# Altium integrated library Transistor.IntLib: 3457 symbols (part 40 of 78)
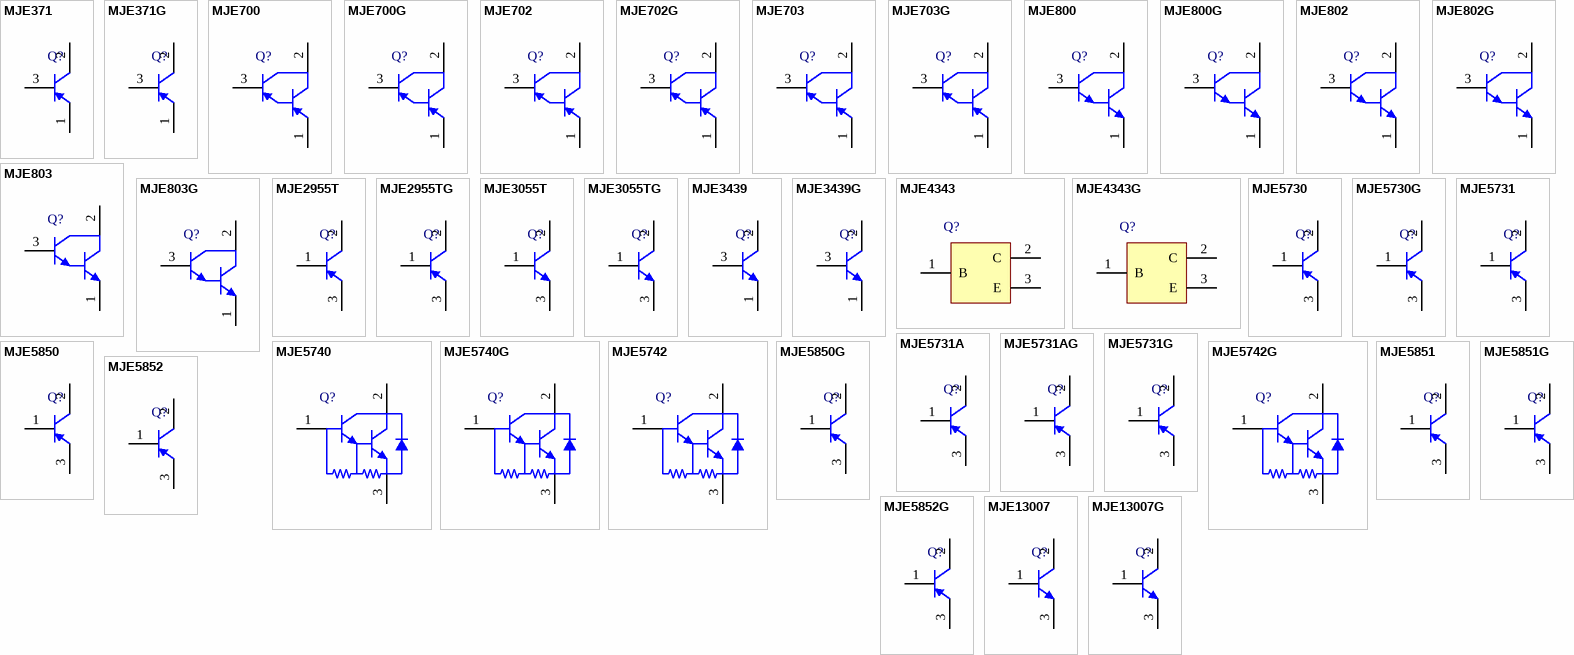
[diagram p133: symbols MJE371 to MJE13007G]

## MJE5852
designator Q?
SWITCHMODE Series PNP Silicon Power Transistor, 3-Pin TO-220, Tube; Manufacturer: On Semiconductor; PartNumber: MJE5852; IC Continuous (A): 8; DatasheetVersion: Rev. 6; PackageVersion: Rev. AG, 09/2011; PackageReference: TO-220-3-221A-09; PackageDescription: 3-Pin Flange Mount, Vertical Straight Lead, Body 9.97 x 4.445 mm, Pitch 2.54 mm; Supplier 1: Digi-Key; Supplier Part Number 1: MJE5852OS-ND; Packing: Tube; Polarity: PNP; RoHS: FALSE; Mounting Technology: Through Hole; ComponentLink1Description: Manufacturer URL; ComponentLink1URL: http://www.onsemi.com/; ComponentLink2Description: Datasheet; ComponentLink2URL: http://www.onsemi.com/pub_link/Collateral/MJE5850-D.PDF; ComponentLink3Description: Package Specification; ComponentLink3URL: http://www.onsemi.com/pub_link/Collateral/221A-09.PDF
footprint ONSC-TO-220-3-221A-09 (FM, 3-Leads, Body 10.3x4.85mm, Pitch 2.54mm)
pins: 1 B, 2 C, 3 E

## MJE5852G
designator Q?
SWITCHMODE Series PNP Silicon Power Transistor, 3-Pin TO-220, Pb-Free, Tube; Manufacturer: On Semiconductor; PartNumber: MJE5852G; IC Continuous (A): 8; DatasheetVersion: Rev. 6; PackageVersion: Rev. AG, 09/2011; PackageReference: TO-220-3-221A-09; PackageDescription: 3-Pin Flange Mount, Vertical Straight Lead, Body 9.97 x 4.445 mm, Pitch 2.54 mm; Supplier 1: Digi-Key; Supplier Part Number 1: MJE5852GOS-ND; Supplier 2: Farnell; Supplier Part Number 2: 9555889; Supplier 3: Newark; Supplier Part Number 3: 26K4469; Supplier 4: Mouser; Supplier Part Number 4: 863-MJE5852G; Packing: Tube; Polarity: PNP; RoHS: TRUE; Mounting Technology: Through Hole; ComponentLink1Description: Manufacturer URL; ComponentLink1URL: http://www.onsemi.com/; ComponentLink2Description: Datasheet; ComponentLink2URL: http://www.onsemi.com/pub_link/Collateral/MJE5850-D.PDF; ComponentLink3Description: Package Specification; ComponentLink3URL: http://www.onsemi.com/pub_link/Collateral/221A-09.PDF
footprint ONSC-TO-220-3-221A-09 (FM, 3-Leads, Body 10.3x4.85mm, Pitch 2.54mm)
pins: 1 B, 2 C, 3 E

## MJE13007
designator Q?
SWITCHMODE, NPN Bipolar Power Transistor for Switching Power Supply Application, 3-Pin TO-220, Tube; Manufacturer: On Semiconductor; PartNumber: MJE13007; fT Min (MHz): 4; IC Continuous (A): 8; DatasheetVersion: Rev. 8; PackageVersion: Rev. AG, 09/2011; PackageReference: TO-220-3-221A-09; PackageDescription: 3-Pin Flange Mount, Vertical Straight Lead, Body 9.97 x 4.445 mm, Pitch 2.54 mm; Supplier 1: Digi-Key; Supplier Part Number 1: MJE13007OS-ND; Packing: Tube; Polarity: NPN; RoHS: FALSE; Mounting Technology: Through Hole; ComponentLink1Description: Manufacturer URL; ComponentLink1URL: http://www.onsemi.com/; ComponentLink2Description: Datasheet; ComponentLink2URL: http://www.onsemi.cn/pub_link/Collateral/MJE13007-D.PDF; ComponentLink3Description: Package Specification; ComponentLink3URL: http://www.onsemi.com/pub_link/Collateral/221A-09.PDF
footprint ONSC-TO-220-3-221A-09 (FM, 3-Leads, Body 10.3x4.85mm, Pitch 2.54mm)
pins: 1 B, 2 C, 3 E

## MJE13007G
designator Q?
SWITCHMODE, NPN Bipolar Power Transistor for Switching Power Supply Application, 3-Pin TO-220, Pb-Free, Tube; Manufacturer: On Semiconductor; PartNumber: MJE13007G; fT Min (MHz): 4; IC Continuous (A): 8; DatasheetVersion: Rev. 8; PackageVersion: Rev. AG, 09/2011; PackageReference: TO-220-3-221A-09; PackageDescription: 3-Pin Flange Mount, Vertical Straight Lead, Body 9.97 x 4.445 mm, Pitch 2.54 mm; Supplier 1: Digi-Key; Supplier Part Number 1: MJE13007GOS-ND; Supplier 2: Farnell; Supplier Part Number 2: 9557857; Supplier 3: Newark; Supplier Part Number 3: 71J5860; Supplier 4: Mouser; Supplier Part Number 4: 863-MJE13007G; Packing: Tube; Polarity: NPN; RoHS: TRUE; Mounting Technology: Through Hole; ComponentLink1Description: Manufacturer URL; ComponentLink1URL: http://www.onsemi.com/; ComponentLink2Description: Datasheet; ComponentLink2URL: http://www.onsemi.cn/pub_link/Collateral/MJE13007-D.PDF; ComponentLink3Description: Package Specification; ComponentLink3URL: http://www.onsemi.com/pub_link/Collateral/221A-09.PDF
footprint ONSC-TO-220-3-221A-09 (FM, 3-Leads, Body 10.3x4.85mm, Pitch 2.54mm)
pins: 1 B, 2 C, 3 E

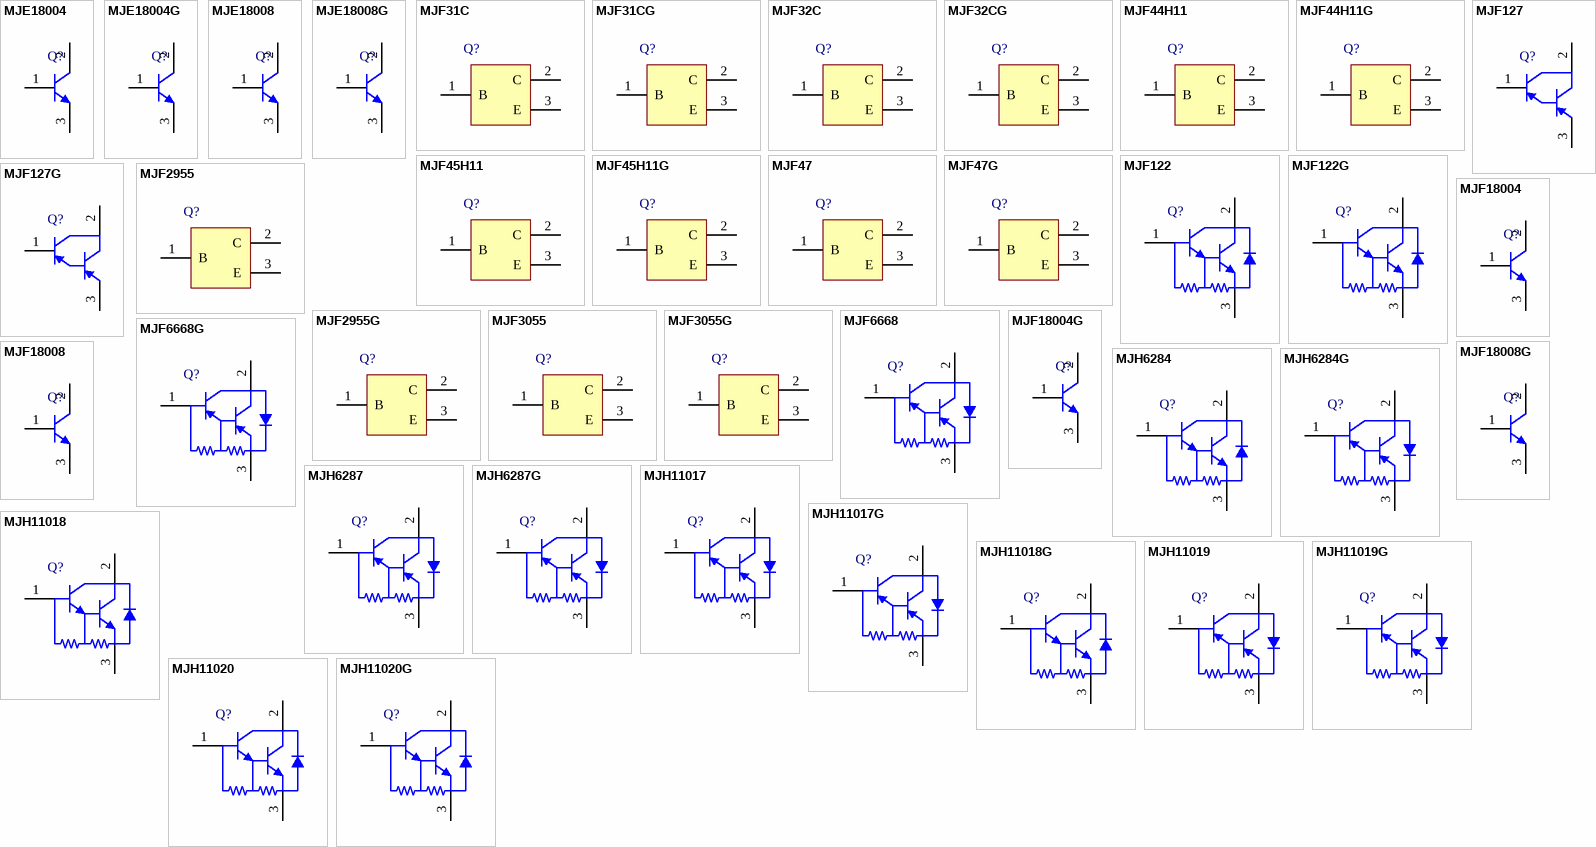
[diagram p47: symbols MJE18004 to MJH11020G]

## MJE18004
designator Q?
SWITCHMODE, NPN Bipolar Power Transistor for Switching Power Supply Application, 3-Pin TO-220, Tube; Manufacturer: On Semiconductor; PartNumber: MJE18004; IC Continuous (A): 5; DatasheetVersion: Rev. 11; PackageVersion: Rev. AG, 09/2011; PackageReference: TO-220-3-221A-09; PackageDescription: 3-Pin Flange Mount, Vertical Straight Lead, Body 9.97 x 4.445 mm, Pitch 2.54 mm; Supplier 1: Digi-Key; Supplier Part Number 1: MJE18004OS-ND; Packing: Tube; Polarity: NPN; RoHS: FALSE; Mounting Technology: Through Hole; ComponentLink1Description: Manufacturer URL; ComponentLink1URL: http://www.onsemi.com/; ComponentLink2Description: Datasheet; ComponentLink2URL: http://www.onsemi.com/pub_link/Collateral/MJE18004-D.PDF; ComponentLink3Description: Package Specification; ComponentLink3URL: http://www.onsemi.com/pub_link/Collateral/221A-09.PDF
footprint ONSC-TO-220-3-221A-09 (FM, 3-Leads, Body 10.3x4.85mm, Pitch 2.54mm)
pins: 1 B, 2 C, 3 E

## MJE18004G
designator Q?
SWITCHMODE, NPN Bipolar Power Transistor for Switching Power Supply Application, 3-Pin TO-220, Pb-Free, Tube; Manufacturer: On Semiconductor; PartNumber: MJE18004G; IC Continuous (A): 5; DatasheetVersion: Rev. 11; PackageVersion: Rev. AG, 09/2011; PackageReference: TO-220-3-221A-09; PackageDescription: 3-Pin Flange Mount, Vertical Straight Lead, Body 9.97 x 4.445 mm, Pitch 2.54 mm; Supplier 1: Digi-Key; Supplier Part Number 1: MJE18004GOS-ND; Supplier 2: Newark; Supplier Part Number 2: 26K4456; Supplier 3: Mouser; Supplier Part Number 3: 863-MJE18004G; Packing: Tube; Polarity: NPN; RoHS: TRUE; Mounting Technology: Through Hole; ComponentLink1Description: Manufacturer URL; ComponentLink1URL: http://www.onsemi.com/; ComponentLink2Description: Datasheet; ComponentLink2URL: http://www.onsemi.com/pub_link/Collateral/MJE18004-D.PDF; ComponentLink3Description: Package Specification; ComponentLink3URL: http://www.onsemi.com/pub_link/Collateral/221A-09.PDF
footprint ONSC-TO-220-3-221A-09 (FM, 3-Leads, Body 10.3x4.85mm, Pitch 2.54mm)
pins: 1 B, 2 C, 3 E

## MJE18008
designator Q?
SWITCHMODE, NPN Bipolar Power Transistor for Switching Power Supply Application, 3-Pin TO-220, Tube; Manufacturer: On Semiconductor; PartNumber: MJE18008; IC Continuous (A): 8; DatasheetVersion: Rev. 9; PackageVersion: Rev. AG, 09/2011; PackageReference: TO-220-3-221A-09; PackageDescription: 3-Pin Flange Mount, Vertical Straight Lead, Body 9.97 x 4.445 mm, Pitch 2.54 mm; Supplier 1: Digi-Key; Supplier Part Number 1: MJE18008OS-ND; Packing: Tube; Polarity: NPN; RoHS: FALSE; Mounting Technology: Through Hole; ComponentLink1Description: Manufacturer URL; ComponentLink1URL: http://www.onsemi.com/; ComponentLink2Description: Datasheet; ComponentLink2URL: http://www.onsemi.com/pub_link/Collateral/MJE18008-D.PDF; ComponentLink3Description: Package Specification; ComponentLink3URL: http://www.onsemi.com/pub_link/Collateral/221A-09.PDF
footprint ONSC-TO-220-3-221A-09 (FM, 3-Leads, Body 10.3x4.85mm, Pitch 2.54mm)
pins: 1 B, 2 C, 3 E

## MJE18008G
designator Q?
SWITCHMODE, NPN Bipolar Power Transistor for Switching Power Supply Application, 3-Pin TO-220, Pb-Free, Tube; Manufacturer: On Semiconductor; PartNumber: MJE18008G; IC Continuous (A): 8; DatasheetVersion: Rev. 9; PackageVersion: Rev. AG, 09/2011; PackageReference: TO-220-3-221A-09; PackageDescription: 3-Pin Flange Mount, Vertical Straight Lead, Body 9.97 x 4.445 mm, Pitch 2.54 mm; Supplier 1: Digi-Key; Supplier Part Number 1: MJE18008GOS-ND; Supplier 2: Farnell; Supplier Part Number 2: 1263959; Supplier 3: Newark; Supplier Part Number 3: 45J1499; Supplier 4: Mouser; Supplier Part Number 4: 863-MJE18008G; Packing: Tube; Polarity: NPN; RoHS: TRUE; Mounting Technology: Through Hole; ComponentLink1Description: Manufacturer URL; ComponentLink1URL: http://www.onsemi.com/; ComponentLink2Description: Datasheet; ComponentLink2URL: http://www.onsemi.com/pub_link/Collateral/MJE18008-D.PDF; ComponentLink3Description: Package Specification; ComponentLink3URL: http://www.onsemi.com/pub_link/Collateral/221A-09.PDF
footprint ONSC-TO-220-3-221A-09 (FM, 3-Leads, Body 10.3x4.85mm, Pitch 2.54mm)
pins: 1 B, 2 C, 3 E

## MJF31C
designator Q?
Complementary Silicon Plastic Power Transistor for Isolated Package Application, 3-Pin TO-220, Tube; Manufacturer: On Semiconductor; PartNumber: MJF31C; fT Min (MHz): 3; Polarity: NPN; DatasheetVersion: Rev. 5; PackageVersion: Rev. K, 02/2009; PackageReference: TO-220-3-221D-03; PackageDescription: 3-Pin Flange Mount, Vertical Straight Lead, Body 10.295 x 4.7 mm, Pitch 2.54 mm; Supplier 1: Digi-Key; Supplier Part Number 1: MJF31C-ND; IC Continuous (A): 3; Packing: Tube; RoHS: FALSE; Mounting Technology: Through Hole; ComponentLink1Description: Manufacturer URL; ComponentLink1URL: http://www.onsemi.com/; ComponentLink2Description: Datasheet; ComponentLink2URL: http://www.onsemi.com/pub_link/Collateral/MJF31C-D.PDF; ComponentLink3Description: Package Specification; ComponentLink3URL: http://www.onsemi.com/pub_link/Collateral/221D-03.PDF
footprint ONSC-TO-220-3-221D-03 (FM, 3-Leads, Body 10.65x4.9mm, Pitch 2.54mm)
pins: 1 B, 2 C, 3 E

## MJF31CG
designator Q?
Complementary Silicon Plastic Power Transistor for Isolated Package Application, 3-Pin TO-220, Pb-Free, Tube; Manufacturer: On Semiconductor; PartNumber: MJF31CG; fT Min (MHz): 3; Polarity: NPN; DatasheetVersion: Rev. 5; PackageVersion: Rev. K, 02/2009; PackageReference: TO-220-3-221D-03; PackageDescription: 3-Pin Flange Mount, Vertical Straight Lead, Body 10.295 x 4.7 mm, Pitch 2.54 mm; Supplier 1: Digi-Key; Supplier Part Number 1: MJF31CGOS-ND; Supplier 2: Farnell; Supplier Part Number 2: 1364072; Supplier 3: Newark; Supplier Part Number 3: 26K4479; Supplier 4: Mouser; Supplier Part Number 4: 863-MJF31CG; IC Continuous (A): 3; Packing: Tube; RoHS: TRUE; Mounting Technology: Through Hole; ComponentLink1Description: Manufacturer URL; ComponentLink1URL: http://www.onsemi.com/; ComponentLink2Description: Datasheet; ComponentLink2URL: http://www.onsemi.com/pub_link/Collateral/MJF31C-D.PDF; ComponentLink3Description: Package Specification; ComponentLink3URL: http://www.onsemi.com/pub_link/Collateral/221D-03.PDF
footprint ONSC-TO-220-3-221D-03 (FM, 3-Leads, Body 10.65x4.9mm, Pitch 2.54mm)
pins: 1 B, 2 C, 3 E

## MJF32C
designator Q?
Complementary Silicon Plastic Power Transistor for Isolated Package Application, 3-Pin TO-220, Tube; Manufacturer: On Semiconductor; PartNumber: MJF32C; fT Min (MHz): 3; Polarity: PNP; DatasheetVersion: Rev. 5; PackageVersion: Rev. K, 02/2009; PackageReference: TO-220-3-221D-03; PackageDescription: 3-Pin Flange Mount, Vertical Straight Lead, Body 10.295 x 4.7 mm, Pitch 2.54 mm; Supplier 1: Digi-Key; Supplier Part Number 1: MJF32C-ND; IC Continuous (A): 3; Packing: Tube; RoHS: FALSE; Mounting Technology: Through Hole; ComponentLink1Description: Manufacturer URL; ComponentLink1URL: http://www.onsemi.com/; ComponentLink2Description: Datasheet; ComponentLink2URL: http://www.onsemi.com/pub_link/Collateral/MJF31C-D.PDF; ComponentLink3Description: Package Specification; ComponentLink3URL: http://www.onsemi.com/pub_link/Collateral/221D-03.PDF
footprint ONSC-TO-220-3-221D-03 (FM, 3-Leads, Body 10.65x4.9mm, Pitch 2.54mm)
pins: 1 B, 2 C, 3 E

## MJF32CG
designator Q?
Complementary Silicon Plastic Power Transistor for Isolated Package Application, 3-Pin TO-220, Pb-Free, Tube; Manufacturer: On Semiconductor; PartNumber: MJF32CG; fT Min (MHz): 3; Polarity: PNP; DatasheetVersion: Rev. 5; PackageVersion: Rev. K, 02/2009; PackageReference: TO-220-3-221D-03; PackageDescription: 3-Pin Flange Mount, Vertical Straight Lead, Body 10.295 x 4.7 mm, Pitch 2.54 mm; Supplier 1: Digi-Key; Supplier Part Number 1: MJF32CG-ND; Supplier 2: Newark; Supplier Part Number 2: 71J5862; Supplier 3: Mouser; Supplier Part Number 3: 863-MJF32CG; IC Continuous (A): 3; Packing: Tube; RoHS: TRUE; Mounting Technology: Through Hole; ComponentLink1Description: Manufacturer URL; ComponentLink1URL: http://www.onsemi.com/; ComponentLink2Description: Datasheet; ComponentLink2URL: http://www.onsemi.com/pub_link/Collateral/MJF31C-D.PDF; ComponentLink3Description: Package Specification; ComponentLink3URL: http://www.onsemi.com/pub_link/Collateral/221D-03.PDF
footprint ONSC-TO-220-3-221D-03 (FM, 3-Leads, Body 10.65x4.9mm, Pitch 2.54mm)
pins: 1 B, 2 C, 3 E

## MJF44H11
designator Q?
Complementary Power Transistor for Isolated Package Application, 3-Pin TO-220, Tube; Manufacturer: On Semiconductor; PartNumber: MJF44H11; IC Continuous (A): 10; Polarity: NPN; DatasheetVersion: Rev. 6; PackageVersion: Rev. K, 02/2009; PackageReference: TO-220-3-221D-03; PackageDescription: 3-Pin Flange Mount, Vertical Straight Lead, Body 10.295 x 4.7 mm, Pitch 2.54 mm; Supplier 1: Digi-Key; Supplier Part Number 1: MJF44H11OS-ND; Packing: Tube; RoHS: FALSE; Mounting Technology: Through Hole; ComponentLink1Description: Manufacturer URL; ComponentLink1URL: http://www.onsemi.com/; ComponentLink2Description: Datasheet; ComponentLink2URL: http://www.onsemi.com/pub_link/Collateral/MJF44H11-D.PDF; ComponentLink3Description: Package Specification; ComponentLink3URL: http://www.onsemi.com/pub_link/Collateral/221D-03.PDF
footprint ONSC-TO-220-3-221D-03 (FM, 3-Leads, Body 10.65x4.9mm, Pitch 2.54mm)
pins: 1 B, 2 C, 3 E

## MJF44H11G
designator Q?
Complementary Power Transistor for Isolated Package Application, 3-Pin TO-220, Pb-Free, Tube; Manufacturer: On Semiconductor; PartNumber: MJF44H11G; IC Continuous (A): 10; Polarity: NPN; DatasheetVersion: Rev. 6; PackageVersion: Rev. K, 02/2009; PackageReference: TO-220-3-221D-03; PackageDescription: 3-Pin Flange Mount, Vertical Straight Lead, Body 10.295 x 4.7 mm, Pitch 2.54 mm; Supplier 1: Digi-Key; Supplier Part Number 1: MJF44H11GOS-ND; Supplier 2: Farnell; Supplier Part Number 2: 1242424; Supplier 3: Newark; Supplier Part Number 3: 42K1301; Supplier 4: Mouser; Supplier Part Number 4: 863-MJF44H11G; Packing: Tube; RoHS: TRUE; Mounting Technology: Through Hole; ComponentLink1Description: Manufacturer URL; ComponentLink1URL: http://www.onsemi.com/; ComponentLink2Description: Datasheet; ComponentLink2URL: http://www.onsemi.com/pub_link/Collateral/MJF44H11-D.PDF; ComponentLink3Description: Package Specification; ComponentLink3URL: http://www.onsemi.com/pub_link/Collateral/221D-03.PDF
footprint ONSC-TO-220-3-221D-03 (FM, 3-Leads, Body 10.65x4.9mm, Pitch 2.54mm)
pins: 1 B, 2 C, 3 E

## MJF45H11
designator Q?
Complementary Power Transistor for Isolated Package Application, 3-Pin TO-220, Tube; Manufacturer: On Semiconductor; PartNumber: MJF45H11; IC Continuous (A): 10; Polarity: PNP; DatasheetVersion: Rev. 6; PackageVersion: Rev. K, 02/2009; PackageReference: TO-220-3-221D-03; PackageDescription: 3-Pin Flange Mount, Vertical Straight Lead, Body 10.295 x 4.7 mm, Pitch 2.54 mm; Supplier 1: Digi-Key; Supplier Part Number 1: MJF45H11-ND; Packing: Tube; RoHS: FALSE; Mounting Technology: Through Hole; ComponentLink1Description: Manufacturer URL; ComponentLink1URL: http://www.onsemi.com/; ComponentLink2Description: Datasheet; ComponentLink2URL: http://www.onsemi.com/pub_link/Collateral/MJF44H11-D.PDF; ComponentLink3Description: Package Specification; ComponentLink3URL: http://www.onsemi.com/pub_link/Collateral/221D-03.PDF
footprint ONSC-TO-220-3-221D-03 (FM, 3-Leads, Body 10.65x4.9mm, Pitch 2.54mm)
pins: 1 B, 2 C, 3 E

## MJF45H11G
designator Q?
Complementary Power Transistor for Isolated Package Application, 3-Pin TO-220, Pb-Free, Tube; Manufacturer: On Semiconductor; PartNumber: MJF45H11G; IC Continuous (A): 10; Polarity: PNP; DatasheetVersion: Rev. 6; PackageVersion: Rev. K, 02/2009; PackageReference: TO-220-3-221D-03; PackageDescription: 3-Pin Flange Mount, Vertical Straight Lead, Body 10.295 x 4.7 mm, Pitch 2.54 mm; Supplier 1: Digi-Key; Supplier Part Number 1: MJF45H11GOS-ND; Supplier 2: Farnell; Supplier Part Number 2: 1147708; Supplier 3: Newark; Supplier Part Number 3: 42K1302; Supplier 4: Mouser; Supplier Part Number 4: 863-MJF45H11G; Packing: Tube; RoHS: TRUE; Mounting Technology: Through Hole; ComponentLink1Description: Manufacturer URL; ComponentLink1URL: http://www.onsemi.com/; ComponentLink2Description: Datasheet; ComponentLink2URL: http://www.onsemi.com/pub_link/Collateral/MJF44H11-D.PDF; ComponentLink3Description: Package Specification; ComponentLink3URL: http://www.onsemi.com/pub_link/Collateral/221D-03.PDF
footprint ONSC-TO-220-3-221D-03 (FM, 3-Leads, Body 10.65x4.9mm, Pitch 2.54mm)
pins: 1 B, 2 C, 3 E

## MJF47
designator Q?
High Voltage Power Transistor, Isolated Package Application, 3-Pin TO-220, Tube; Manufacturer: On Semiconductor; PartNumber: MJF47; fT Min (MHz): 10; IC Continuous (A): 1; Polarity: NPN; DatasheetVersion: Rev. 6; PackageVersion: Rev. K, 02/2009; PackageReference: TO-220-3-221D-03; PackageDescription: 3-Pin Flange Mount, Vertical Straight Lead, Body 10.295 x 4.7 mm, Pitch 2.54 mm; Supplier 1: Digi-Key; Supplier Part Number 1: MJF47OS-ND; Packing: Tube; RoHS: FALSE; Mounting Technology: Through Hole; ComponentLink1Description: Manufacturer URL; ComponentLink1URL: http://www.onsemi.com/; ComponentLink2Description: Datasheet; ComponentLink2URL: http://www.onsemi.com/pub_link/Collateral/MJF47-D.PDF; ComponentLink3Description: Package Specification; ComponentLink3URL: http://www.onsemi.com/pub_link/Collateral/221D-03.PDF
footprint ONSC-TO-220-3-221D-03 (FM, 3-Leads, Body 10.65x4.9mm, Pitch 2.54mm)
pins: 1 B, 2 C, 3 E

## MJF47G
designator Q?
High Voltage Power Transistor, Isolated Package Application, 3-Pin TO-220, Pb-Free, Tube; Manufacturer: On Semiconductor; PartNumber: MJF47G; fT Min (MHz): 10; IC Continuous (A): 1; Polarity: NPN; DatasheetVersion: Rev. 6; PackageVersion: Rev. K, 02/2009; PackageReference: TO-220-3-221D-03; PackageDescription: 3-Pin Flange Mount, Vertical Straight Lead, Body 10.295 x 4.7 mm, Pitch 2.54 mm; Supplier 1: Digi-Key; Supplier Part Number 1: MJF47GOS-ND; Supplier 2: Newark; Supplier Part Number 2: 42K1303; Supplier 3: Mouser; Supplier Part Number 3: 863-MJF47G; Packing: Tube; RoHS: TRUE; Mounting Technology: Through Hole; ComponentLink1Description: Manufacturer URL; ComponentLink1URL: http://www.onsemi.com/; ComponentLink2Description: Datasheet; ComponentLink2URL: http://www.onsemi.com/pub_link/Collateral/MJF47-D.PDF; ComponentLink3Description: Package Specification; ComponentLink3URL: http://www.onsemi.com/pub_link/Collateral/221D-03.PDF
footprint ONSC-TO-220-3-221D-03 (FM, 3-Leads, Body 10.65x4.9mm, Pitch 2.54mm)
pins: 1 B, 2 C, 3 E

## MJF122
designator Q?
Complementary Power Darlington, for Isolated Package Application, 3-Pin TO-220, Tube; Manufacturer: On Semiconductor; PartNumber: MJF122; IC Continuous (A): 5; Polarity: NPN; DatasheetVersion: Rev. 7; PackageVersion: Rev. K, 02/2009; PackageReference: TO-220-3-221D-03; PackageDescription: 3-Pin Flange Mount, Vertical Straight Lead, Body 10.295 x 4.7 mm, Pitch 2.54 mm; Supplier 1: Digi-Key; Supplier Part Number 1: MJF122OS-ND; Packing: Tube; RoHS: FALSE; Mounting Technology: Through Hole; ComponentLink1Description: Manufacturer URL; ComponentLink1URL: http://www.onsemi.com/; ComponentLink2Description: Datasheet; ComponentLink2URL: http://www.onsemi.com/pub_link/Collateral/MJF122-D.PDF; ComponentLink3Description: Package Specification; ComponentLink3URL: http://www.onsemi.com/pub_link/Collateral/221D-03.PDF
footprint ONSC-TO-220-3-221D-03 (FM, 3-Leads, Body 10.65x4.9mm, Pitch 2.54mm)
pins: 1 B, 2 C, 3 E

## MJF122G
designator Q?
Complementary Power Darlington, for Isolated Package Application, 3-Pin TO-220, Pb-Free, Tube; Manufacturer: On Semiconductor; PartNumber: MJF122G; IC Continuous (A): 5; Polarity: NPN; DatasheetVersion: Rev. 7; PackageVersion: Rev. K, 02/2009; PackageReference: TO-220-3-221D-03; PackageDescription: 3-Pin Flange Mount, Vertical Straight Lead, Body 10.295 x 4.7 mm, Pitch 2.54 mm; Supplier 1: Digi-Key; Supplier Part Number 1: MJF122GOS-ND; Supplier 2: Farnell; Supplier Part Number 2: 1653621; Supplier 3: Newark; Supplier Part Number 3: 26K4474; Supplier 4: Mouser; Supplier Part Number 4: 863-MJF122G; Packing: Tube; RoHS: TRUE; Mounting Technology: Through Hole; ComponentLink1Description: Manufacturer URL; ComponentLink1URL: http://www.onsemi.com/; ComponentLink2Description: Datasheet; ComponentLink2URL: http://www.onsemi.com/pub_link/Collateral/MJF122-D.PDF; ComponentLink3Description: Package Specification; ComponentLink3URL: http://www.onsemi.com/pub_link/Collateral/221D-03.PDF
footprint ONSC-TO-220-3-221D-03 (FM, 3-Leads, Body 10.65x4.9mm, Pitch 2.54mm)
pins: 1 B, 2 C, 3 E

## MJF127
designator Q?
Complementary Power Darlington, for Isolated Package Application, 3-Pin TO-220, Tube; Manufacturer: On Semiconductor; PartNumber: MJF127; IC Continuous (A): 5; Polarity: PNP; DatasheetVersion: Rev. 7; PackageVersion: Rev. K, 02/2009; PackageReference: TO-220-3-221D-03; PackageDescription: 3-Pin Flange Mount, Vertical Straight Lead, Body 10.295 x 4.7 mm, Pitch 2.54 mm; Supplier 1: Digi-Key; Supplier Part Number 1: MJF127OS-ND; Packing: Tube; RoHS: FALSE; Mounting Technology: Through Hole; ComponentLink1Description: Manufacturer URL; ComponentLink1URL: http://www.onsemi.com/; ComponentLink2Description: Datasheet; ComponentLink2URL: http://www.onsemi.com/pub_link/Collateral/MJF122-D.PDF; ComponentLink3Description: Package Specification; ComponentLink3URL: http://www.onsemi.com/pub_link/Collateral/221D-03.PDF
footprint ONSC-TO-220-3-221D-03 (FM, 3-Leads, Body 10.65x4.9mm, Pitch 2.54mm)
pins: 1 B, 2 C, 3 E

## MJF127G
designator Q?
Complementary Power Darlington, for Isolated Package Application, 3-Pin TO-220, Pb-Free, Tube; Manufacturer: On Semiconductor; PartNumber: MJF127G; IC Continuous (A): 5; Polarity: PNP; DatasheetVersion: Rev. 7; PackageVersion: Rev. K, 02/2009; PackageReference: TO-220-3-221D-03; PackageDescription: 3-Pin Flange Mount, Vertical Straight Lead, Body 10.295 x 4.7 mm, Pitch 2.54 mm; Supplier 1: Digi-Key; Supplier Part Number 1: MJF127GOS-ND; Supplier 2: Farnell; Supplier Part Number 2: 1136099; Supplier 3: Newark; Supplier Part Number 3: 26K4475; Supplier 4: Mouser; Supplier Part Number 4: 863-MJF127G; Packing: Tube; RoHS: TRUE; Mounting Technology: Through Hole; ComponentLink1Description: Manufacturer URL; ComponentLink1URL: http://www.onsemi.com/; ComponentLink2Description: Datasheet; ComponentLink2URL: http://www.onsemi.com/pub_link/Collateral/MJF122-D.PDF; ComponentLink3Description: Package Specification; ComponentLink3URL: http://www.onsemi.com/pub_link/Collateral/221D-03.PDF
footprint ONSC-TO-220-3-221D-03 (FM, 3-Leads, Body 10.65x4.9mm, Pitch 2.54mm)
pins: 1 B, 2 C, 3 E

## MJF2955
designator Q?
Complementary Silicon Power Transistor, 3-Pin TO-220, Tube; Manufacturer: On Semiconductor; PartNumber: MJF2955; fT Min (MHz): 2; IC Continuous (A): 10; Polarity: PNP; DatasheetVersion: Rev. 7; PackageVersion: Rev. K, 02/2009; PackageReference: TO-220-3-221D-03; PackageDescription: 3-Pin Flange Mount, Vertical Straight Lead, Body 10.295 x 4.7 mm, Pitch 2.54 mm; Supplier 1: Digi-Key; Supplier Part Number 1: MJF2955-ND; Packing: Tube; RoHS: FALSE; Mounting Technology: Through Hole; ComponentLink1Description: Manufacturer URL; ComponentLink1URL: http://www.onsemi.com/; ComponentLink2Description: Datasheet; ComponentLink2URL: http://www.onsemi.com/pub_link/Collateral/MJF3055-D.PDF; ComponentLink3Description: Package Specification; ComponentLink3URL: http://www.onsemi.com/pub_link/Collateral/221D-03.PDF
footprint ONSC-TO-220-3-221D-03 (FM, 3-Leads, Body 10.65x4.9mm, Pitch 2.54mm)
pins: 1 B, 2 C, 3 E

## MJF2955G
designator Q?
Complementary Silicon Power Transistor, 3-Pin TO-220, Pb-Free, Tube; Manufacturer: On Semiconductor; PartNumber: MJF2955G; fT Min (MHz): 2; IC Continuous (A): 10; Polarity: PNP; DatasheetVersion: Rev. 7; PackageVersion: Rev. K, 02/2009; PackageReference: TO-220-3-221D-03; PackageDescription: 3-Pin Flange Mount, Vertical Straight Lead, Body 10.295 x 4.7 mm, Pitch 2.54 mm; Supplier 1: Digi-Key; Supplier Part Number 1: MJF2955GOS-ND; Supplier 2: Newark; Supplier Part Number 2: 98H0740; Supplier 3: Mouser; Supplier Part Number 3: 863-MJF2955G; Packing: Tube; RoHS: TRUE; Mounting Technology: Through Hole; ComponentLink1Description: Manufacturer URL; ComponentLink1URL: http://www.onsemi.com/; ComponentLink2Description: Datasheet; ComponentLink2URL: http://www.onsemi.com/pub_link/Collateral/MJF3055-D.PDF; ComponentLink3Description: Package Specification; ComponentLink3URL: http://www.onsemi.com/pub_link/Collateral/221D-03.PDF
footprint ONSC-TO-220-3-221D-03 (FM, 3-Leads, Body 10.65x4.9mm, Pitch 2.54mm)
pins: 1 B, 2 C, 3 E

## MJF3055
designator Q?
Complementary Silicon Power Transistor, 3-Pin TO-220, Tube; Manufacturer: On Semiconductor; PartNumber: MJF3055; fT Min (MHz): 2; IC Continuous (A): 10; Polarity: NPN; DatasheetVersion: Rev. 7; PackageVersion: Rev. K, 02/2009; PackageReference: TO-220-3-221D-03; PackageDescription: 3-Pin Flange Mount, Vertical Straight Lead, Body 10.295 x 4.7 mm, Pitch 2.54 mm; Supplier 1: Digi-Key; Supplier Part Number 1: MJF3055OS-ND; Packing: Tube; RoHS: FALSE; Mounting Technology: Through Hole; ComponentLink1Description: Manufacturer URL; ComponentLink1URL: http://www.onsemi.com/; ComponentLink2Description: Datasheet; ComponentLink2URL: http://www.onsemi.com/pub_link/Collateral/MJF3055-D.PDF; ComponentLink3Description: Package Specification; ComponentLink3URL: http://www.onsemi.com/pub_link/Collateral/221D-03.PDF
footprint ONSC-TO-220-3-221D-03 (FM, 3-Leads, Body 10.65x4.9mm, Pitch 2.54mm)
pins: 1 B, 2 C, 3 E

## MJF3055G
designator Q?
Complementary Silicon Power Transistor, 3-Pin TO-220, Pb-Free, Tube; Manufacturer: On Semiconductor; PartNumber: MJF3055G; fT Min (MHz): 2; IC Continuous (A): 10; Polarity: NPN; DatasheetVersion: Rev. 7; PackageVersion: Rev. K, 02/2009; PackageReference: TO-220-3-221D-03; PackageDescription: 3-Pin Flange Mount, Vertical Straight Lead, Body 10.295 x 4.7 mm, Pitch 2.54 mm; Supplier 1: Digi-Key; Supplier Part Number 1: MJF3055GOS-ND; Supplier 2: Farnell; Supplier Part Number 2: 2101380; Supplier 3: Newark; Supplier Part Number 3: 45J1508; Supplier 4: Mouser; Supplier Part Number 4: 863-MJF3055G; Packing: Tube; RoHS: TRUE; Mounting Technology: Through Hole; ComponentLink1Description: Manufacturer URL; ComponentLink1URL: http://www.onsemi.com/; ComponentLink2Description: Datasheet; ComponentLink2URL: http://www.onsemi.com/pub_link/Collateral/MJF3055-D.PDF; ComponentLink3Description: Package Specification; ComponentLink3URL: http://www.onsemi.com/pub_link/Collateral/221D-03.PDF
footprint ONSC-TO-220-3-221D-03 (FM, 3-Leads, Body 10.65x4.9mm, Pitch 2.54mm)
pins: 1 B, 2 C, 3 E

## MJF6668
designator Q?
Complementary Power Darlington, for Isolated Package Application, 3-Pin TO-220, Tube; Manufacturer: On Semiconductor; PartNumber: MJF6668; hFE Max (k): 15; IC Continuous (A): 10; Polarity: PNP; DatasheetVersion: Rev. 11; PackageVersion: Rev. K, 02/2009; PackageReference: TO-220-3-221D-03; PackageDescription: 3-Pin Flange Mount, Vertical Straight Lead, Body 10.295 x 4.7 mm, Pitch 2.54 mm; Supplier 1: Digi-Key; Supplier Part Number 1: MJF6668OS-ND; Supplier 2: Mouser; Supplier Part Number 2: 863-MJF6668; Packing: Tube; RoHS: FALSE; Mounting Technology: Through Hole; ComponentLink1Description: Manufacturer URL; ComponentLink1URL: http://www.onsemi.com/; ComponentLink2Description: Datasheet; ComponentLink2URL: http://www.onsemi.com/pub_link/Collateral/MJF6388-D.PDF; ComponentLink3Description: Package Specification; ComponentLink3URL: http://www.onsemi.com/pub_link/Collateral/221D-03.PDF
footprint ONSC-TO-220-3-221D-03 (FM, 3-Leads, Body 10.65x4.9mm, Pitch 2.54mm)
pins: 1 B, 2 C, 3 E

## MJF6668G
designator Q?
Complementary Power Darlington, for Isolated Package Application, 3-Pin TO-220, Pb-Free, Tube; Manufacturer: On Semiconductor; PartNumber: MJF6668G; hFE Max (k): 15; IC Continuous (A): 10; Polarity: PNP; DatasheetVersion: Rev. 11; PackageVersion: Rev. K, 02/2009; PackageReference: TO-220-3-221D-03; PackageDescription: 3-Pin Flange Mount, Vertical Straight Lead, Body 10.295 x 4.7 mm, Pitch 2.54 mm; Supplier 1: Digi-Key; Supplier Part Number 1: MJF6668GOS-ND; Supplier 2: Mouser; Supplier Part Number 2: 863-MJF6668G; Packing: Tube; RoHS: TRUE; Mounting Technology: Through Hole; ComponentLink1Description: Manufacturer URL; ComponentLink1URL: http://www.onsemi.com/; ComponentLink2Description: Datasheet; ComponentLink2URL: http://www.onsemi.com/pub_link/Collateral/MJF6388-D.PDF; ComponentLink3Description: Package Specification; ComponentLink3URL: http://www.onsemi.com/pub_link/Collateral/221D-03.PDF
footprint ONSC-TO-220-3-221D-03 (FM, 3-Leads, Body 10.65x4.9mm, Pitch 2.54mm)
pins: 1 B, 2 C, 3 E

## MJF18004
designator Q?
SWITCHMODE, NPN Bipolar Power Transistor for Switching Power Supply Application, 3-Pin TO-220, Tube; Manufacturer: On Semiconductor; PartNumber: MJF18004; IC Continuous (A): 5; DatasheetVersion: Rev. 11; PackageVersion: Rev. K, 02/2009; PackageReference: TO-220-3-221D-03; PackageDescription: 3-Pin Flange Mount, Vertical Straight Lead, Body 10.295 x 4.7 mm, Pitch 2.54 mm; Supplier 1: Digi-Key; Supplier Part Number 1: MJF18004OS-ND; Packing: Tube; Polarity: NPN; RoHS: FALSE; Mounting Technology: Through Hole; ComponentLink1Description: Manufacturer URL; ComponentLink1URL: http://www.onsemi.com/; ComponentLink2Description: Datasheet; ComponentLink2URL: http://www.onsemi.com/pub_link/Collateral/MJE18004-D.PDF; ComponentLink3Description: Package Specification; ComponentLink3URL: http://www.onsemi.com/pub_link/Collateral/221D-03.PDF
footprint ONSC-TO-220-3-221D-03 (FM, 3-Leads, Body 10.65x4.9mm, Pitch 2.54mm)
pins: 1 B, 2 C, 3 E

## MJF18004G
designator Q?
SWITCHMODE, NPN Bipolar Power Transistor for Switching Power Supply Application, 3-Pin TO-220, Pb-Free, Tube; Manufacturer: On Semiconductor; PartNumber: MJF18004G; IC Continuous (A): 5; DatasheetVersion: Rev. 11; PackageVersion: Rev. K, 02/2009; PackageReference: TO-220-3-221D-03; PackageDescription: 3-Pin Flange Mount, Vertical Straight Lead, Body 10.295 x 4.7 mm, Pitch 2.54 mm; Supplier 1: Digi-Key; Supplier Part Number 1: MJF18004GOS-ND; Supplier 2: Farnell; Supplier Part Number 2: 9557873; Supplier 3: Newark; Supplier Part Number 3: 26K4478; Supplier 4: Mouser; Supplier Part Number 4: 863-MJF18004G; Packing: Tube; Polarity: NPN; RoHS: TRUE; Mounting Technology: Through Hole; ComponentLink1Description: Manufacturer URL; ComponentLink1URL: http://www.onsemi.com/; ComponentLink2Description: Datasheet; ComponentLink2URL: http://www.onsemi.com/pub_link/Collateral/MJE18004-D.PDF; ComponentLink3Description: Package Specification; ComponentLink3URL: http://www.onsemi.com/pub_link/Collateral/221D-03.PDF
footprint ONSC-TO-220-3-221D-03 (FM, 3-Leads, Body 10.65x4.9mm, Pitch 2.54mm)
pins: 1 B, 2 C, 3 E

## MJF18008
designator Q?
SWITCHMODE, NPN Bipolar Power Transistor for Switching Power Supply Application, 3-Pin TO-220, Tube; Manufacturer: On Semiconductor; PartNumber: MJF18008; IC Continuous (A): 8; DatasheetVersion: Rev. 9; PackageVersion: Rev. K, 02/2009; PackageReference: TO-220-3-221D-03; PackageDescription: 3-Pin Flange Mount, Vertical Straight Lead, Body 10.295 x 4.7 mm, Pitch 2.54 mm; Supplier 1: Digi-Key; Supplier Part Number 1: MJF18008OS-ND; Packing: Tube; Polarity: NPN; RoHS: FALSE; Mounting Technology: Through Hole; ComponentLink1Description: Manufacturer URL; ComponentLink1URL: http://www.onsemi.com/; ComponentLink2Description: Datasheet; ComponentLink2URL: http://www.onsemi.com/pub_link/Collateral/MJE18008-D.PDF; ComponentLink3Description: Package Specification; ComponentLink3URL: http://www.onsemi.com/pub_link/Collateral/221D-03.PDF
footprint ONSC-TO-220-3-221D-03 (FM, 3-Leads, Body 10.65x4.9mm, Pitch 2.54mm)
pins: 1 B, 2 C, 3 E

## MJF18008G
designator Q?
SWITCHMODE, NPN Bipolar Power Transistor for Switching Power Supply Application, 3-Pin TO-220, Pb-Free, Tube; Manufacturer: On Semiconductor; PartNumber: MJF18008G; IC Continuous (A): 8; DatasheetVersion: Rev. 9; PackageVersion: Rev. K, 02/2009; PackageReference: TO-220-3-221D-03; PackageDescription: 3-Pin Flange Mount, Vertical Straight Lead, Body 10.295 x 4.7 mm, Pitch 2.54 mm; Supplier 1: Digi-Key; Supplier Part Number 1: MJF18008GOS-ND; Supplier 2: Newark; Supplier Part Number 2: 45J1507; Supplier 3: Mouser; Supplier Part Number 3: 863-MJF18008G; Packing: Tube; Polarity: NPN; RoHS: TRUE; Mounting Technology: Through Hole; ComponentLink1Description: Manufacturer URL; ComponentLink1URL: http://www.onsemi.com/; ComponentLink2Description: Datasheet; ComponentLink2URL: http://www.onsemi.com/pub_link/Collateral/MJE18008-D.PDF; ComponentLink3Description: Package Specification; ComponentLink3URL: http://www.onsemi.com/pub_link/Collateral/221D-03.PDF
footprint ONSC-TO-220-3-221D-03 (FM, 3-Leads, Body 10.65x4.9mm, Pitch 2.54mm)
pins: 1 B, 2 C, 3 E

## MJH6284
designator Q?
Darlington Complementary Silicon Power Transistor, 3-Pin SOT-93, Tube; Manufacturer: On Semiconductor; PartNumber: MJH6284; hFE Max (k): 18; IC Continuous (A): 20; Polarity: NPN; DatasheetVersion: Rev. 7; PackageVersion: Rev. E; PackageReference: SOT-93_TO-218-3-340D-02; PackageDescription: 3-Pin Flange Mount, Vertical Straight Lead, Body 14.95 x 4.8 mm, Pitch 5.475 mm; Supplier 1: Digi-Key; Supplier Part Number 1: MJH6284OS-ND; Packing: Tube; RoHS: FALSE; Mounting Technology: Through Hole; ComponentLink1Description: Manufacturer URL; ComponentLink1URL: http://www.onsemi.com/; ComponentLink2Description: Datasheet; ComponentLink2URL: http://www.onsemi.com/pub_link/Collateral/MJH6284-D.PDF; ComponentLink3Description: Package Specification; ComponentLink3URL: http://www.onsemi.com/pub_link/Collateral/TIP33C-D.PDF
footprint ONSC-SOT-93_TO-218-3-340D-02 (FM, 3-Leads, Body 15.2x4.9mm, Pitch 5.475mm)
pins: 1 B, 2 C, 3 E

## MJH6284G
designator Q?
Darlington Complementary Silicon Power Transistor, 3-Pin TO-247, Pb-Free, Tube; Manufacturer: On Semiconductor; PartNumber: MJH6284G; hFE Max (k): 18; IC Continuous (A): 20; Polarity: NPN; DatasheetVersion: Rev. 7; PackageVersion: Rev. F, 10/2011; PackageReference: TO-247-3-340L-02; PackageDescription: 3-Pin Flange Mount, Vertical Straight Lead, Body 16.005 x 5 mm, Pitch 5.45 mm; Supplier 1: Digi-Key; Supplier Part Number 1: MJH6284GOS-ND; Supplier 2: Farnell; Supplier Part Number 2: 9556010; Supplier 3: Newark; Supplier Part Number 3: 26K4487; Supplier 4: Mouser; Supplier Part Number 4: 863-MJH6284G; Packing: Tube; RoHS: TRUE; Mounting Technology: Through Hole; ComponentLink1Description: Manufacturer URL; ComponentLink1URL: http://www.onsemi.com/; ComponentLink2Description: Datasheet; ComponentLink2URL: http://www.onsemi.com/pub_link/Collateral/MJH6284-D.PDF; ComponentLink3Description: Package Specification; ComponentLink3URL: http://www.onsemi.cn/pub_link/Collateral/340L-02.PDF
footprint ONSC-TO-247-3-340L-02 (FM, 3-Leads, Body 16.3x5.3mm, Pitch 5.45mm)
pins: 1 B, 2 C, 3 E

## MJH6287
designator Q?
Darlington Complementary Silicon Power Transistor, 3-Pin SOT-93, Tube; Manufacturer: On Semiconductor; PartNumber: MJH6287; hFE Max (k): 18; IC Continuous (A): 20; Polarity: PNP; DatasheetVersion: Rev. 7; PackageVersion: Rev. E; PackageReference: SOT-93_TO-218-3-340D-02; PackageDescription: 3-Pin Flange Mount, Vertical Straight Lead, Body 14.95 x 4.8 mm, Pitch 5.475 mm; Supplier 1: Digi-Key; Supplier Part Number 1: MJH6287OS-ND; Packing: Tube; RoHS: FALSE; Mounting Technology: Through Hole; ComponentLink1Description: Manufacturer URL; ComponentLink1URL: http://www.onsemi.com/; ComponentLink2Description: Datasheet; ComponentLink2URL: http://www.onsemi.com/pub_link/Collateral/MJH6284-D.PDF; ComponentLink3Description: Package Specification; ComponentLink3URL: http://www.onsemi.com/pub_link/Collateral/TIP33C-D.PDF
footprint ONSC-SOT-93_TO-218-3-340D-02 (FM, 3-Leads, Body 15.2x4.9mm, Pitch 5.475mm)
pins: 1 B, 2 C, 3 E

## MJH6287G
designator Q?
Darlington Complementary Silicon Power Transistor, 3-Pin TO-247, Pb-Free, Tube; Manufacturer: On Semiconductor; PartNumber: MJH6287G; hFE Max (k): 18; IC Continuous (A): 20; Polarity: PNP; DatasheetVersion: Rev. 7; PackageVersion: Rev. F, 10/2011; PackageReference: TO-247-3-340L-02; PackageDescription: 3-Pin Flange Mount, Vertical Straight Lead, Body 16.005 x 5 mm, Pitch 5.45 mm; Supplier 1: Digi-Key; Supplier Part Number 1: MJH6287GOS-ND; Supplier 2: Newark; Supplier Part Number 2: 26K4488; Supplier 3: Mouser; Supplier Part Number 3: 863-MJH6287G; Packing: Tube; RoHS: TRUE; Mounting Technology: Through Hole; ComponentLink1Description: Manufacturer URL; ComponentLink1URL: http://www.onsemi.com/; ComponentLink2Description: Datasheet; ComponentLink2URL: http://www.onsemi.com/pub_link/Collateral/MJH6284-D.PDF; ComponentLink3Description: Package Specification; ComponentLink3URL: http://www.onsemi.cn/pub_link/Collateral/340L-02.PDF
footprint ONSC-TO-247-3-340L-02 (FM, 3-Leads, Body 16.3x5.3mm, Pitch 5.45mm)
pins: 1 B, 2 C, 3 E

## MJH11017
designator Q?
Complementary Darlington Silicon Power Transistor, 3-Pin SOT-93, Tube; Manufacturer: On Semiconductor; PartNumber: MJH11017; hFE Max (k): 15; Polarity: PNP; DatasheetVersion: Rev. 9; PackageVersion: Rev. E; PackageReference: SOT-93_TO-218-3-340D-02; PackageDescription: 3-Pin Flange Mount, Vertical Straight Lead, Body 14.95 x 4.8 mm, Pitch 5.475 mm; Supplier 1: Digi-Key; Supplier Part Number 1: MJH11017OS-ND; IC Continuous (A): 15; Packing: Tube; RoHS: FALSE; Mounting Technology: Through Hole; ComponentLink1Description: Manufacturer URL; ComponentLink1URL: http://www.onsemi.com/; ComponentLink2Description: Datasheet; ComponentLink2URL: http://www.onsemi.com/pub_link/Collateral/MJH11017-D.PDF; ComponentLink3Description: Package Specification; ComponentLink3URL: http://www.onsemi.com/pub_link/Collateral/TIP33C-D.PDF
footprint ONSC-SOT-93_TO-218-3-340D-02 (FM, 3-Leads, Body 15.2x4.9mm, Pitch 5.475mm)
pins: 1 B, 2 C, 3 E

## MJH11017G
designator Q?
Complementary Darlington Silicon Power Transistor, 3-Pin TO-247, Pb-Free, Tube; Manufacturer: On Semiconductor; PartNumber: MJH11017G; hFE Max (k): 15; Polarity: PNP; DatasheetVersion: Rev. 9; PackageVersion: Rev. F, 10/2011; PackageReference: TO-247-3-340L-02; PackageDescription: 3-Pin Flange Mount, Vertical Straight Lead, Body 16.005 x 5 mm, Pitch 5.45 mm; Supplier 1: Digi-Key; Supplier Part Number 1: MJH11017GOS-ND; Supplier 2: Newark; Supplier Part Number 2: 42K1304; Supplier 3: Mouser; Supplier Part Number 3: 863-MJH11017G; IC Continuous (A): 15; Packing: Tube; RoHS: TRUE; Mounting Technology: Through Hole; ComponentLink1Description: Manufacturer URL; ComponentLink1URL: http://www.onsemi.com/; ComponentLink2Description: Datasheet; ComponentLink2URL: http://www.onsemi.com/pub_link/Collateral/MJH11017-D.PDF; ComponentLink3Description: Package Specification; ComponentLink3URL: http://www.onsemi.cn/pub_link/Collateral/340L-02.PDF
footprint ONSC-TO-247-3-340L-02 (FM, 3-Leads, Body 16.3x5.3mm, Pitch 5.45mm)
pins: 1 B, 2 C, 3 E

## MJH11018
designator Q?
Complementary Darlington Silicon Power Transistor, 3-Pin SOT-93, Tube; Manufacturer: On Semiconductor; PartNumber: MJH11018; hFE Max (k): 15; Polarity: NPN; DatasheetVersion: Rev. 9; PackageVersion: Rev. E; PackageReference: SOT-93_TO-218-3-340D-02; PackageDescription: 3-Pin Flange Mount, Vertical Straight Lead, Body 14.95 x 4.8 mm, Pitch 5.475 mm; Supplier 1: Mouser; Supplier Part Number 1: 863-MJH11018; IC Continuous (A): 15; Packing: Tube; RoHS: FALSE; Mounting Technology: Through Hole; ComponentLink1Description: Manufacturer URL; ComponentLink1URL: http://www.onsemi.com/; ComponentLink2Description: Datasheet; ComponentLink2URL: http://www.onsemi.com/pub_link/Collateral/MJH11017-D.PDF; ComponentLink3Description: Package Specification; ComponentLink3URL: http://www.onsemi.com/pub_link/Collateral/TIP33C-D.PDF
footprint ONSC-SOT-93_TO-218-3-340D-02 (FM, 3-Leads, Body 15.2x4.9mm, Pitch 5.475mm)
pins: 1 B, 2 C, 3 E

## MJH11018G
designator Q?
Complementary Darlington Silicon Power Transistor, 3-Pin SOT-93, Pb-Free, Tube; Manufacturer: On Semiconductor; PartNumber: MJH11018G; hFE Max (k): 15; Polarity: NPN; DatasheetVersion: Rev. 9; PackageVersion: Rev. E; PackageReference: SOT-93_TO-218-3-340D-02; PackageDescription: 3-Pin Flange Mount, Vertical Straight Lead, Body 14.95 x 4.8 mm, Pitch 5.475 mm; Supplier 1: Mouser; Supplier Part Number 1: 863-MJH11018G; IC Continuous (A): 15; Packing: Tube; RoHS: TRUE; Mounting Technology: Through Hole; ComponentLink1Description: Manufacturer URL; ComponentLink1URL: http://www.onsemi.com/; ComponentLink2Description: Datasheet; ComponentLink2URL: http://www.onsemi.com/pub_link/Collateral/MJH11017-D.PDF; ComponentLink3Description: Package Specification; ComponentLink3URL: http://www.onsemi.com/pub_link/Collateral/TIP33C-D.PDF
footprint ONSC-SOT-93_TO-218-3-340D-02 (FM, 3-Leads, Body 15.2x4.9mm, Pitch 5.475mm)
pins: 1 B, 2 C, 3 E

## MJH11019
designator Q?
Complementary Darlington Silicon Power Transistor, 3-Pin SOT-93, Tube; Manufacturer: On Semiconductor; PartNumber: MJH11019; hFE Max (k): 15; Polarity: PNP; DatasheetVersion: Rev. 9; PackageVersion: Rev. E; PackageReference: SOT-93_TO-218-3-340D-02; PackageDescription: 3-Pin Flange Mount, Vertical Straight Lead, Body 14.95 x 4.8 mm, Pitch 5.475 mm; Supplier 1: Digi-Key; Supplier Part Number 1: MJH11019OS-ND; IC Continuous (A): 15; Packing: Tube; RoHS: FALSE; Mounting Technology: Through Hole; ComponentLink1Description: Manufacturer URL; ComponentLink1URL: http://www.onsemi.com/; ComponentLink2Description: Datasheet; ComponentLink2URL: http://www.onsemi.com/pub_link/Collateral/MJH11017-D.PDF; ComponentLink3Description: Package Specification; ComponentLink3URL: http://www.onsemi.com/pub_link/Collateral/TIP33C-D.PDF
footprint ONSC-SOT-93_TO-218-3-340D-02 (FM, 3-Leads, Body 15.2x4.9mm, Pitch 5.475mm)
pins: 1 B, 2 C, 3 E

## MJH11019G
designator Q?
Complementary Darlington Silicon Power Transistor, 3-Pin TO-247, Pb-Free, Tube; Manufacturer: On Semiconductor; PartNumber: MJH11019G; hFE Max (k): 15; Polarity: PNP; DatasheetVersion: Rev. 9; PackageVersion: Rev. F, 10/2011; PackageReference: TO-247-3-340L-02; PackageDescription: 3-Pin Flange Mount, Vertical Straight Lead, Body 16.005 x 5 mm, Pitch 5.45 mm; Supplier 1: Digi-Key; Supplier Part Number 1: MJH11019GOS-ND; Supplier 2: Farnell; Supplier Part Number 2: 2101381; Supplier 3: Newark; Supplier Part Number 3: 26K4483; Supplier 4: Mouser; Supplier Part Number 4: 863-MJH11019G; IC Continuous (A): 15; Packing: Tube; RoHS: TRUE; Mounting Technology: Through Hole; ComponentLink1Description: Manufacturer URL; ComponentLink1URL: http://www.onsemi.com/; ComponentLink2Description: Datasheet; ComponentLink2URL: http://www.onsemi.com/pub_link/Collateral/MJH11017-D.PDF; ComponentLink3Description: Package Specification; ComponentLink3URL: http://www.onsemi.cn/pub_link/Collateral/340L-02.PDF
footprint ONSC-TO-247-3-340L-02 (FM, 3-Leads, Body 16.3x5.3mm, Pitch 5.45mm)
pins: 1 B, 2 C, 3 E

## MJH11020
designator Q?
Complementary Darlington Silicon Power Transistor, 3-Pin SOT-93, Tube; Manufacturer: On Semiconductor; PartNumber: MJH11020; hFE Max (k): 15; Polarity: NPN; DatasheetVersion: Rev. 9; PackageVersion: Rev. E; PackageReference: SOT-93_TO-218-3-340D-02; PackageDescription: 3-Pin Flange Mount, Vertical Straight Lead, Body 14.95 x 4.8 mm, Pitch 5.475 mm; Supplier 1: Digi-Key; Supplier Part Number 1: MJH11020OS-ND; IC Continuous (A): 15; Packing: Tube; RoHS: FALSE; Mounting Technology: Through Hole; ComponentLink1Description: Manufacturer URL; ComponentLink1URL: http://www.onsemi.com/; ComponentLink2Description: Datasheet; ComponentLink2URL: http://www.onsemi.com/pub_link/Collateral/MJH11017-D.PDF; ComponentLink3Description: Package Specification; ComponentLink3URL: http://www.onsemi.com/pub_link/Collateral/TIP33C-D.PDF
footprint ONSC-SOT-93_TO-218-3-340D-02 (FM, 3-Leads, Body 15.2x4.9mm, Pitch 5.475mm)
pins: 1 B, 2 C, 3 E

## MJH11020G
designator Q?
Complementary Darlington Silicon Power Transistor, 3-Pin TO-247, Pb-Free, Tube; Manufacturer: On Semiconductor; PartNumber: MJH11020G; hFE Max (k): 15; Polarity: NPN; DatasheetVersion: Rev. 9; PackageVersion: Rev. F, 10/2011; PackageReference: TO-247-3-340L-02; PackageDescription: 3-Pin Flange Mount, Vertical Straight Lead, Body 16.005 x 5 mm, Pitch 5.45 mm; Supplier 1: Digi-Key; Supplier Part Number 1: MJH11020GOS-ND; Supplier 2: Farnell; Supplier Part Number 2: 2101382; Supplier 3: Newark; Supplier Part Number 3: 26K4484; Supplier 4: Mouser; Supplier Part Number 4: 863-MJH11020G; IC Continuous (A): 15; Packing: Tube; RoHS: TRUE; Mounting Technology: Through Hole; ComponentLink1Description: Manufacturer URL; ComponentLink1URL: http://www.onsemi.com/; ComponentLink2Description: Datasheet; ComponentLink2URL: http://www.onsemi.com/pub_link/Collateral/MJH11017-D.PDF; ComponentLink3Description: Package Specification; ComponentLink3URL: http://www.onsemi.cn/pub_link/Collateral/340L-02.PDF
footprint ONSC-TO-247-3-340L-02 (FM, 3-Leads, Body 16.3x5.3mm, Pitch 5.45mm)
pins: 1 B, 2 C, 3 E

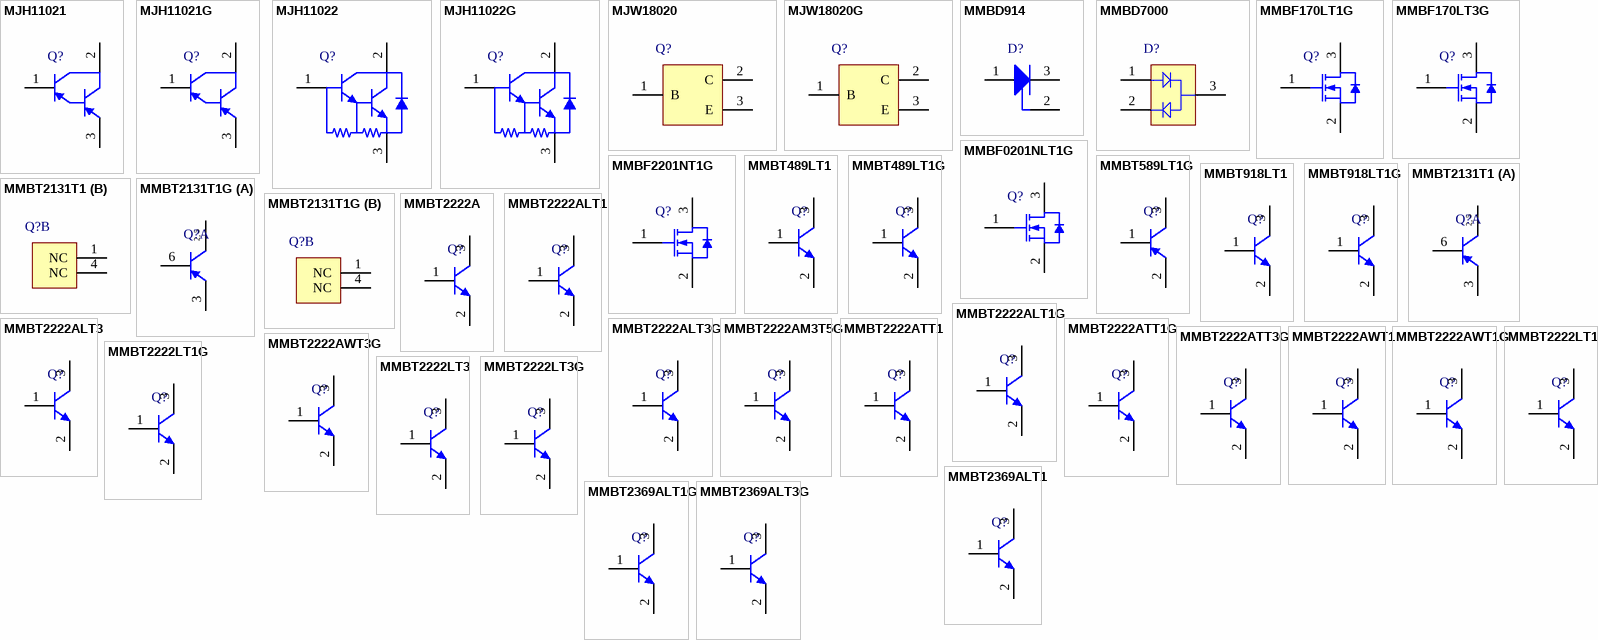
[diagram p48: symbols MJH11021 to MMBT2369ALT3G]

## MJH11021
designator Q?
Complementary Darlington Silicon Power Transistor, 3-Pin SOT-93, Tube; Manufacturer: On Semiconductor; PartNumber: MJH11021; hFE Max (k): 15; Polarity: PNP; DatasheetVersion: Rev. 9; PackageVersion: Rev. E; PackageReference: SOT-93_TO-218-3-340D-02; PackageDescription: 3-Pin Flange Mount, Vertical Straight Lead, Body 14.95 x 4.8 mm, Pitch 5.475 mm; Supplier 1: Digi-Key; Supplier Part Number 1: MJH11021OS-ND; Supplier 2: Newark; Supplier Part Number 2: 07F8459; IC Continuous (A): 15; Packing: Tube; RoHS: FALSE; Mounting Technology: Through Hole; ComponentLink1Description: Manufacturer URL; ComponentLink1URL: http://www.onsemi.com/; ComponentLink2Description: Datasheet; ComponentLink2URL: http://www.onsemi.com/pub_link/Collateral/MJH11017-D.PDF; ComponentLink3Description: Package Specification; ComponentLink3URL: http://www.onsemi.com/pub_link/Collateral/TIP33C-D.PDF
footprint ONSC-SOT-93_TO-218-3-340D-02 (FM, 3-Leads, Body 15.2x4.9mm, Pitch 5.475mm)
pins: 1 B, 2 C, 3 E

## MJH11021G
designator Q?
Complementary Darlington Silicon Power Transistor, 3-Pin TO-247, Pb-Free, Tube; Manufacturer: On Semiconductor; PartNumber: MJH11021G; hFE Max (k): 15; Polarity: PNP; DatasheetVersion: Rev. 9; PackageVersion: Rev. F, 10/2011; PackageReference: TO-247-3-340L-02; PackageDescription: 3-Pin Flange Mount, Vertical Straight Lead, Body 16.005 x 5 mm, Pitch 5.45 mm; Supplier 1: Digi-Key; Supplier Part Number 1: MJH11021GOS-ND; Supplier 2: Farnell; Supplier Part Number 2: 1611189; Supplier 3: Newark; Supplier Part Number 3: 26K4485; Supplier 4: Mouser; Supplier Part Number 4: 863-MJH11021G; IC Continuous (A): 15; Packing: Tube; RoHS: TRUE; Mounting Technology: Through Hole; ComponentLink1Description: Manufacturer URL; ComponentLink1URL: http://www.onsemi.com/; ComponentLink2Description: Datasheet; ComponentLink2URL: http://www.onsemi.com/pub_link/Collateral/MJH11017-D.PDF; ComponentLink3Description: Package Specification; ComponentLink3URL: http://www.onsemi.cn/pub_link/Collateral/340L-02.PDF
footprint ONSC-TO-247-3-340L-02 (FM, 3-Leads, Body 16.3x5.3mm, Pitch 5.45mm)
pins: 1 B, 2 C, 3 E

## MJH11022
designator Q?
Complementary Darlington Silicon Power Transistor, 3-Pin SOT-93, Tube; Manufacturer: On Semiconductor; PartNumber: MJH11022; hFE Max (k): 15; Polarity: NPN; DatasheetVersion: Rev. 9; PackageVersion: Rev. E; PackageReference: SOT-93_TO-218-3-340D-02; PackageDescription: 3-Pin Flange Mount, Vertical Straight Lead, Body 14.95 x 4.8 mm, Pitch 5.475 mm; Supplier 1: Digi-Key; Supplier Part Number 1: MJH11022OS-ND; IC Continuous (A): 15; Packing: Tube; RoHS: FALSE; Mounting Technology: Through Hole; ComponentLink1Description: Manufacturer URL; ComponentLink1URL: http://www.onsemi.com/; ComponentLink2Description: Datasheet; ComponentLink2URL: http://www.onsemi.com/pub_link/Collateral/MJH11017-D.PDF; ComponentLink3Description: Package Specification; ComponentLink3URL: http://www.onsemi.com/pub_link/Collateral/TIP33C-D.PDF
footprint ONSC-SOT-93_TO-218-3-340D-02 (FM, 3-Leads, Body 15.2x4.9mm, Pitch 5.475mm)
pins: 1 B, 2 C, 3 E

## MJH11022G
designator Q?
Complementary Darlington Silicon Power Transistor, 3-Pin TO-247, Pb-Free, Tube; Manufacturer: On Semiconductor; PartNumber: MJH11022G; hFE Max (k): 15; Polarity: NPN; DatasheetVersion: Rev. 9; PackageVersion: Rev. F, 10/2011; PackageReference: TO-247-3-340L-02; PackageDescription: 3-Pin Flange Mount, Vertical Straight Lead, Body 16.005 x 5 mm, Pitch 5.45 mm; Supplier 1: Digi-Key; Supplier Part Number 1: MJH11022GOS-ND; Supplier 2: Farnell; Supplier Part Number 2: 1611190; Supplier 3: Newark; Supplier Part Number 3: 26K4486; Supplier 4: Mouser; Supplier Part Number 4: 863-MJH11022G; IC Continuous (A): 15; Packing: Tube; RoHS: TRUE; Mounting Technology: Through Hole; ComponentLink1Description: Manufacturer URL; ComponentLink1URL: http://www.onsemi.com/; ComponentLink2Description: Datasheet; ComponentLink2URL: http://www.onsemi.com/pub_link/Collateral/MJH11017-D.PDF; ComponentLink3Description: Package Specification; ComponentLink3URL: http://www.onsemi.cn/pub_link/Collateral/340L-02.PDF
footprint ONSC-TO-247-3-340L-02 (FM, 3-Leads, Body 16.3x5.3mm, Pitch 5.45mm)
pins: 1 B, 2 C, 3 E